# EAGLE library part MSF10 (library rapid_3.5mm_jack)
MSF CONNECTOR
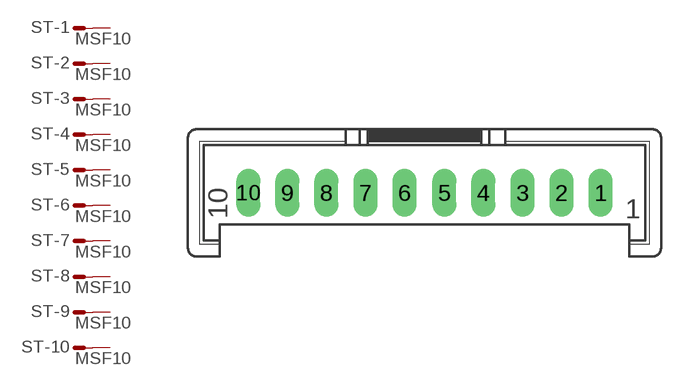
[diagram p24: symbol with the pads of MSF10; footprint MSF10]

Designator prefix ST; gates -1=M -2=M -3=M -4=M -5=M -6=M -7=M -8=M -9=M -10=M

## MSF10 (MPN: 2,5 MSF 10; OC_FARNELL: 1212155; OC_NEWARK: 96K6056)  [MSF10]
1  -1:S  pas
2  -2:S  pas
3  -3:S  pas
4  -4:S  pas
5  -5:S  pas
6  -6:S  pas
7  -7:S  pas
8  -8:S  pas
9  -9:S  pas
10  -10:S  pas

## Footprint MSF10 (pad centres in mm)
MSF CONNECTOR Buerklin Nr. 56 F 562
drill 1.016 long: 1 11.252,-2.54; 2 8.763,-2.54; 3 6.274,-2.54; 4 3.759,-2.54; 5 1.27,-2.54; 6 -1.27,-2.54; 7 -3.759,-2.54; 8 -6.274,-2.54; 9 -8.763,-2.54; 10 -11.252,-2.54